# EAGLE library part ATTINY48 (library gpn14_smd)
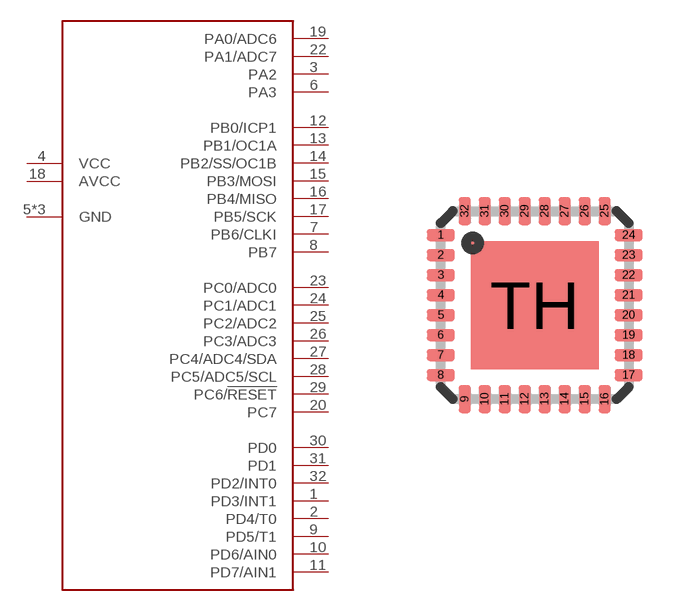
[diagram p1: symbol with the pads of MLF32-TH; footprint MLF32-TH]

Designator prefix -

## ATTINY48  [MLF32-TH]
1  PD3/INT1
2  PD4/T0
3  PA2
4  VCC
5  GND
6  PA3
7  PB6/CLKI
8  PB7
9  PD5/T1
10  PD6/AIN0
11  PD7/AIN1
12  PB0/ICP1
13  PB1/OC1A
14  PB2/SS/OC1B
15  PB3/MOSI
16  PB4/MISO
17  PB5/SCK
18  AVCC
19  PA0/ADC6
20  PC7
21  GND
22  PA1/ADC7
23  PC0/ADC0
24  PC1/ADC1
25  PC2/ADC2
26  PC3/ADC3
27  PC4/ADC4/SDA
28  PC5/ADC5/SCL
29  PC6/!RESET
30  PD0
31  PD1
32  PD2/INT0
TH  GND

## Footprint MLF32-TH (pad centres in mm)
32M1-A Micro Lead Frame package (MLF)
smd 0.7 x 0.3: 1 -2.35,1.75; 2 -2.35,1.25; 3 -2.35,0.75; 4 -2.35,0.25; 5 -2.35,-0.25; 6 -2.35,-0.75; 7 -2.35,-1.25; 8 -2.35,-1.75; 17 2.35,-1.75; 18 2.35,-1.25; 19 2.35,-0.75; 20 2.35,-0.25; 21 2.35,0.25; 22 2.35,0.75; 23 2.35,1.25; 24 2.35,1.75
smd 0.3 x 0.7: 9 -1.75,-2.35; 10 -1.25,-2.35; 11 -0.75,-2.35; 12 -0.25,-2.35; 13 0.25,-2.35; 14 0.75,-2.35; 15 1.25,-2.35; 16 1.75,-2.35; 25 1.75,2.35; 26 1.25,2.35; 27 0.75,2.35; 28 0.25,2.35; 29 -0.25,2.35; 30 -0.75,2.35; 31 -1.25,2.35; 32 -1.75,2.35
smd 3.2 x 3.2: TH 0,0